# EAGLE library part 61302821121 (library Wuerth_Elektronik_eiCan_Pin_&_Socked_Headers_v1.3)
WR-PHD 2.54mm Dual Pin Header, 28 Pins
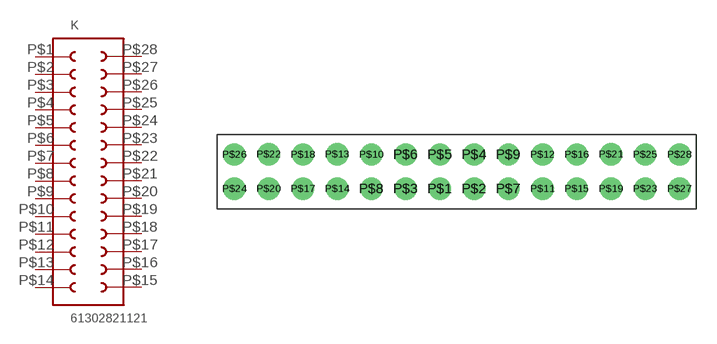
[diagram p29: symbol with the pads of 61302821121; footprint 61302821121]

Designator prefix K

## 61302821121  [61302821121]
P$1  1  pas
P$2  2  pas
P$3  3  pas
P$4  4  pas
P$5  5  pas
P$6  6  pas
P$7  7  pas
P$8  8  pas
P$9  9  pas
P$10  10  pas
P$11  11  pas
P$12  12  pas
P$13  13  pas
P$14  14  pas
P$15  15  pas
P$16  16  pas
P$17  17  pas
P$18  18  pas
P$19  19  pas
P$20  20  pas
P$21  21  pas
P$22  22  pas
P$23  23  pas
P$24  24  pas
P$25  25  pas
P$26  26  pas
P$27  27  pas
P$28  28  pas

## Footprint 61302821121 (pad centres in mm)
WR-PHD 2.54mm Dual Pin Header, 28 Pins
drill 1.1 round: P$1 0,0; P$2 2.54,0; P$3 -2.54,0; P$4 2.54,2.54; P$5 0,2.54; P$6 -2.54,2.54; P$7 5.08,0; P$8 -5.08,0; P$9 5.08,2.54; P$10 -5.08,2.54; P$11 7.62,0; P$12 7.62,2.54; P$13 -7.62,2.56; P$14 -7.62,0; P$15 10.16,0; P$16 10.16,2.54; P$17 -10.16,0; P$18 -10.16,2.54; P$19 12.7,0; P$20 -12.7,0; P$21 12.7,2.56; P$22 -12.7,2.56; P$23 15.24,0; P$24 -15.24,0; P$25 15.24,2.54; P$26 -15.24,2.54; P$27 17.78,0; P$28 17.78,2.54